# EAGLE library part LPC111X (library we-chip)
NXP LPC1113/14 ARM Cortex-M0 Microcontroller
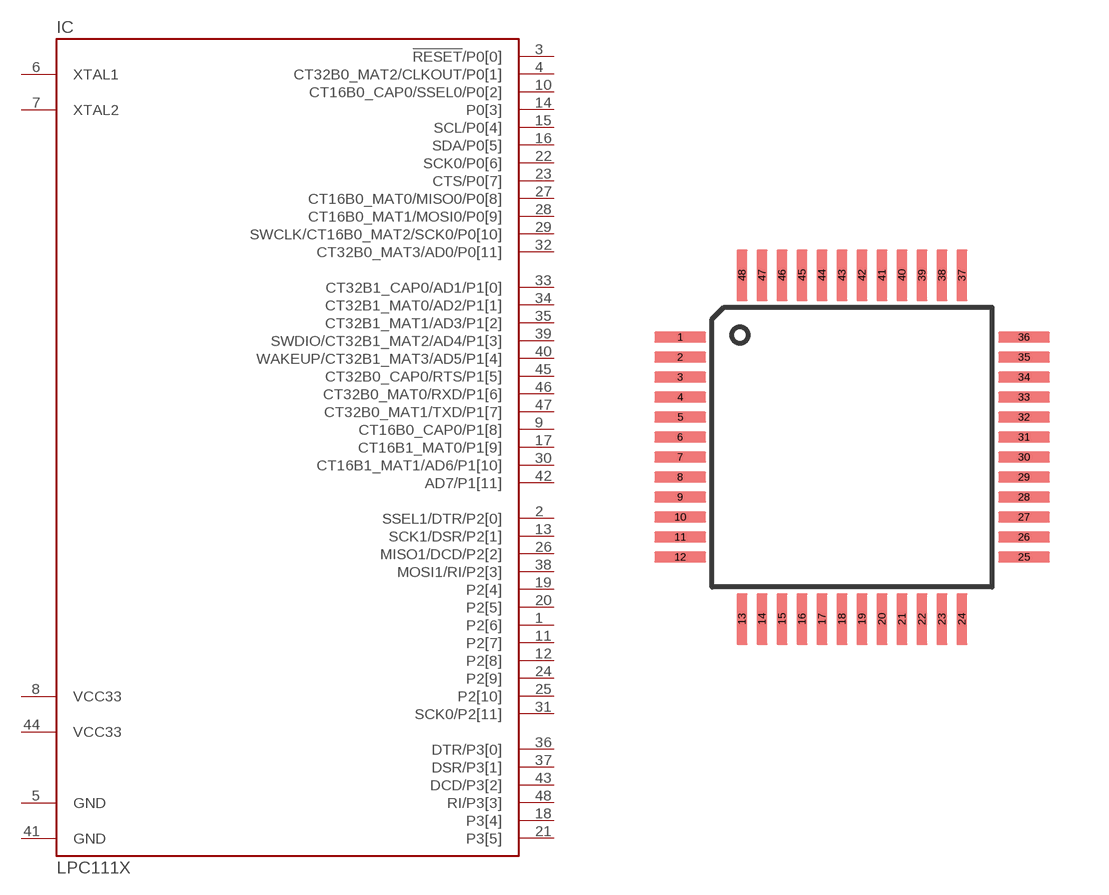
[diagram p4: symbol with the pads of TQFP48; footprint TQFP48]

Designator prefix IC

## LPC111X-FBD48  [TQFP48]
1  P2[6]
2  SSEL1/DTR/P2[0]
3  !RESET!/P0[0]
4  CT32B0_MAT2/CLKOUT/P0[1]
5  GND  pwr
6  XTAL1
7  XTAL2
8  VCC33  pwr
9  CT16B0_CAP0/P1[8]
10  CT16B0_CAP0/SSEL0/P0[2]
11  P2[7]
12  P2[8]
13  SCK1/DSR/P2[1]
14  P0[3]
15  SCL/P0[4]
16  SDA/P0[5]
17  CT16B1_MAT0/P1[9]
18  P3[4]
19  P2[4]
20  P2[5]
21  P3[5]
22  SCK0/P0[6]
23  CTS/P0[7]
24  P2[9]
25  P2[10]
26  MISO1/DCD/P2[2]
27  CT16B0_MAT0/MISO0/P0[8]
28  CT16B0_MAT1/MOSI0/P0[9]
29  SWCLK/CT16B0_MAT2/SCK0/P0[10]
30  CT16B1_MAT1/AD6/P1[10]
31  SCK0/P2[11]
32  CT32B0_MAT3/AD0/P0[11]
33  CT32B1_CAP0/AD1/P1[0]
34  CT32B1_MAT0/AD2/P1[1]
35  CT32B1_MAT1/AD3/P1[2]
36  DTR/P3[0]
37  DSR/P3[1]
38  MOSI1/RI/P2[3]
39  SWDIO/CT32B1_MAT2/AD4/P1[3]
40  WAKEUP/CT32B1_MAT3/AD5/P1[4]
41  GND  pwr
42  AD7/P1[11]
43  DCD/P3[2]
44  VCC33  pwr
45  CT32B0_CAP0/RTS/P1[5]
46  CT32B0_MAT0/RXD/P1[6]
47  CT32B0_MAT1/TXD/P1[7]
48  RI/P3[3]

## Footprint TQFP48 (pad centres in mm)
smd 1.3 x 0.28: 1 -4.3,2.75; 2 -4.3,2.25; 3 -4.3,1.75; 4 -4.3,1.25; 5 -4.3,0.75; 6 -4.3,0.25; 7 -4.3,-0.25; 8 -4.3,-0.75; 9 -4.3,-1.25; 10 -4.3,-1.75; 11 -4.3,-2.25; 12 -4.3,-2.75; 25 4.3,-2.75; 26 4.3,-2.25; 27 4.3,-1.75; 28 4.3,-1.25; 29 4.3,-0.75; 30 4.3,-0.25; 31 4.3,0.25; 32 4.3,0.75; 33 4.3,1.25; 34 4.3,1.75; 35 4.3,2.25; 36 4.3,2.75
smd 0.28 x 1.3: 13 -2.75,-4.3; 14 -2.25,-4.3; 15 -1.75,-4.3; 16 -1.25,-4.3; 17 -0.75,-4.3; 18 -0.25,-4.3; 19 0.25,-4.3; 20 0.75,-4.3; 21 1.25,-4.3; 22 1.75,-4.3; 23 2.25,-4.3; 24 2.75,-4.3; 37 2.75,4.3; 38 2.25,4.3; 39 1.75,4.3; 40 1.25,4.3; 41 0.75,4.3; 42 0.25,4.3; 43 -0.25,4.3; 44 -0.75,4.3; 45 -1.25,4.3; 46 -1.75,4.3; 47 -2.25,4.3; 48 -2.75,4.3